# Altium footprint library swicth.PcbLib: 82 footprints (part 2 of 6)
Each footprint in its own frame and in the unit in brackets; x right, y up, seen from the top. Pads: shape width x height; smd on the part's side, far side on the other; paste and mask are expansions set on the pad; w line width, h text height; cw(c..) or ccw(c..) is an arc to the next point about the centre after c.
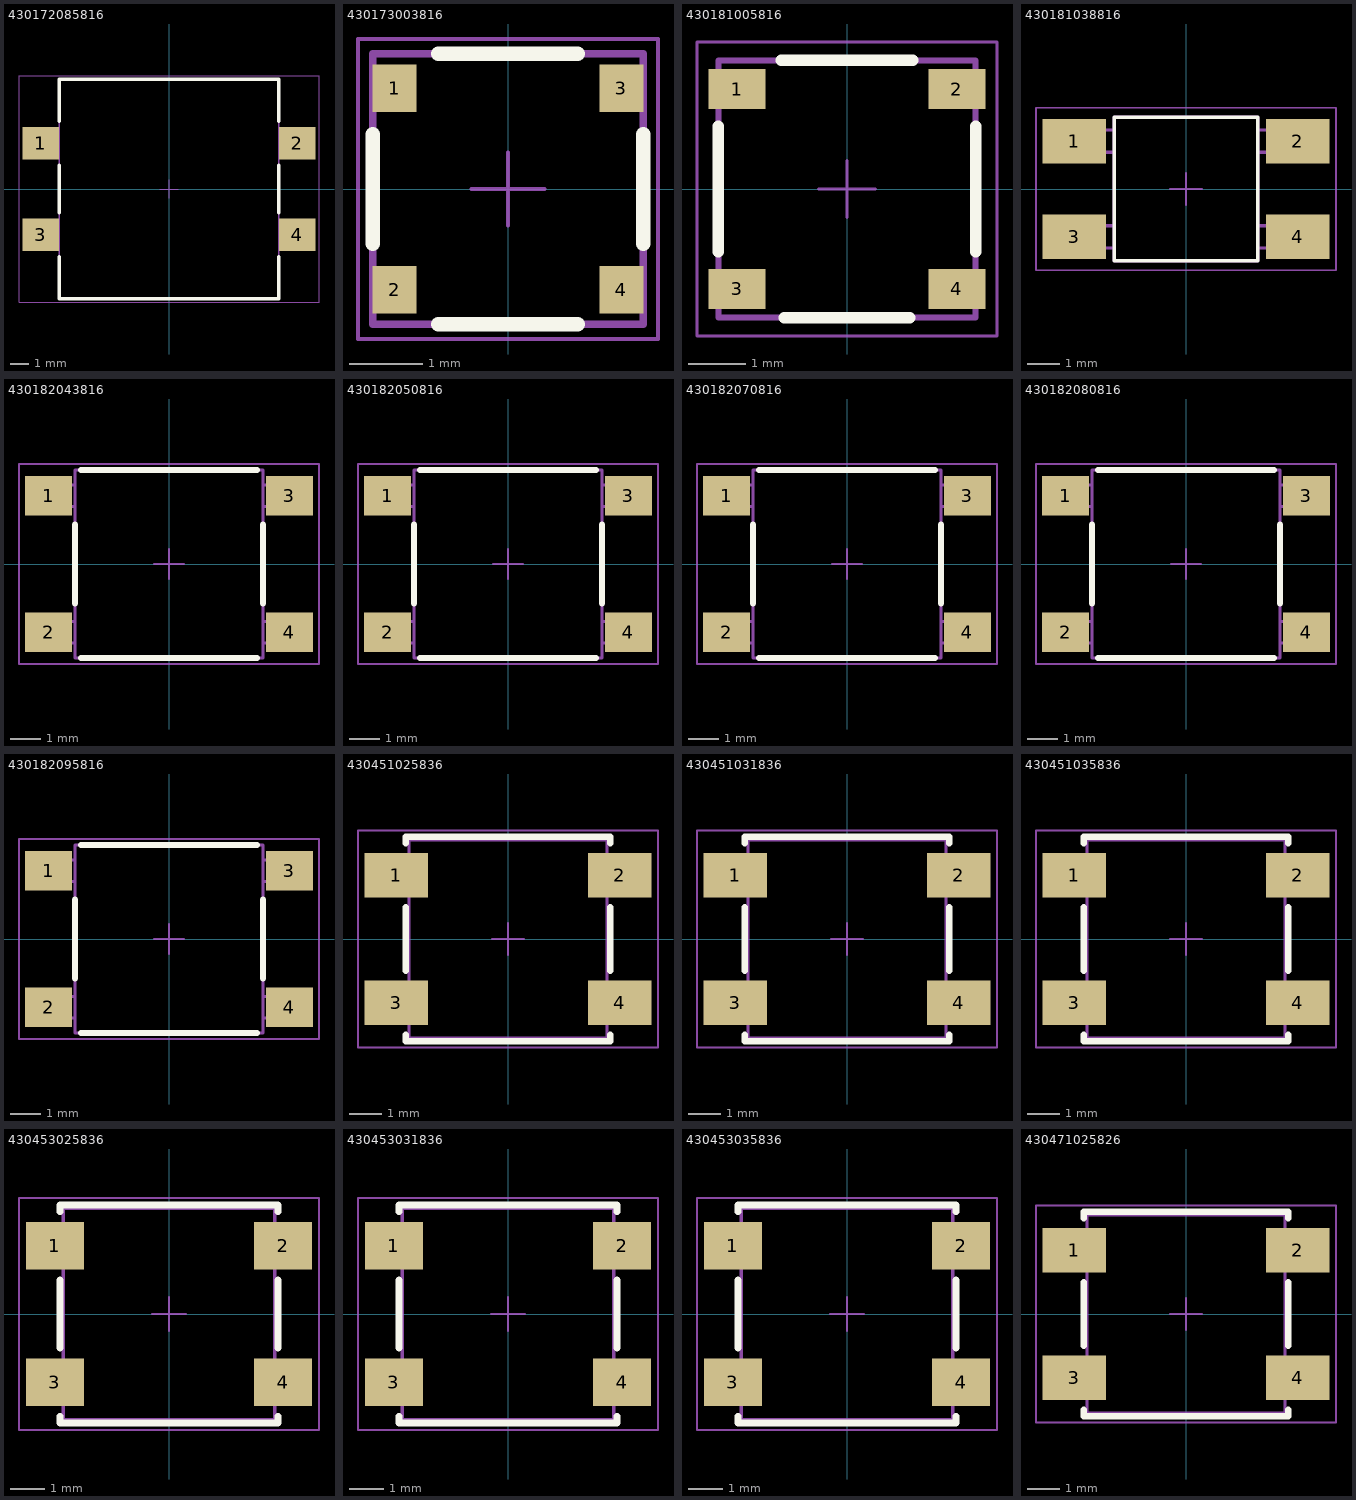
[diagram p1: the footprints below, top view; thin cyan lines are the x and y axes]

## 430172085816 [mm] "Tact Switch, SMD, body 12x12mm"
height 8.5
pads (4):
  rect 2x1.8 smd: 1(-7,2.5) 2(7,2.5) 3(-7,-2.5) 4(7,-2.5)
Top Overlay:
  lines w0.2: -6,-3.7 -6,-6 6,-6 6,-3.7 ; -6,-1.3 -6,1.3 ; -6,3.7 -6,6 6,6 6,3.7 ; 6,-1.3 6,1.3
Mechanical 13:
  lines w0.1: -6,-3 -7.65,-3 -7.65,-2 -6,-2 ; -6,2 -7.65,2 -7.65,3 -6,3 ; 6,-3 7.65,-3 7.65,-2 6,-2 ; 6,2 7.65,2 7.65,3 6,3 ; -6,-6 -6,6 6,6 6,-6 -6,-6
Mechanical 15:
  lines w0.05: -0.5,0 0.5,0 ; 0,-0.5 0,0.5 ; -8.2,-6.2 8.2,-6.2 8.2,6.2 -8.2,6.2 -8.2,-6.2
3D body "4301x20858x6.stp": height 8.5, standoff 0, extent -7.65,-6 7.65,6

## 430173003816 [mm] "Tact Switch, SMD, body 3.7x3.7mm"
height 0.35
pads (4):
  rect 0.6x0.65 smd: 1(-1.55,1.375) 2(-1.55,-1.375) 3(1.55,1.375) 4(1.55,-1.375)
Top Overlay:
  lines w0.2: -1.85,-0.75 -1.85,0.75 ; -0.95,-1.85 0.95,-1.85 ; -0.95,1.85 0.95,1.85 ; 1.85,-0.75 1.85,0.75
Mechanical 13:
  lines w0.1: -1.85,-1.85 1.85,-1.85 1.85,1.85 -1.85,1.85 -1.85,-1.85
Mechanical 15:
  lines w0.05: -0.5,0 0.5,0 ; 0,-0.5 0,0.5 ; -2.05,-2.05 2.05,-2.05 2.05,2.05 -2.05,2.05 -2.05,-2.05
3D body "4301x30038xx.stp": height 0.35, standoff 0, extent -1.85,-1.85 1.85,1.85

## 430181005816 [mm] "Tact Switch, SMD, body 4.5x4.5mm"
height 0.55
pads (4):
  rect 1x0.7 smd: 1(-1.925,1.75) 2(1.925,1.75) 3(-1.925,-1.75) 4(1.925,-1.75)
Top Overlay:
  lines w0.2: -2.25,-1.1 -2.25,1.1 ; -1.15,2.25 1.15,2.25 ; -1.1,-2.25 1.1,-2.25 ; 2.25,-1.1 2.25,1.1
Mechanical 13:
  lines w0.1: -2.25,-2.25 2.25,-2.25 2.25,2.25 -2.25,2.25 -2.25,-2.25
Mechanical 15:
  lines w0.05: -0.5,0 0.5,0 ; 0,-0.5 0,0.5 ; -2.625,-2.575 2.625,-2.575 2.625,2.575 -2.625,2.575 -2.625,-2.575
3D body "4301x10058x6.stp": height 0.55, standoff -0.01, extent -2.375,-2.25 2.375,2.25

## 430181038816 [mm] "Tact Switch, SMD, body 4.5x4.5mm"
height 3.8
pads (4):
  rect 2x1.4 smd: 1(-3.5,1.5) 2(3.5,1.5) 3(-3.5,-1.5) 4(3.5,-1.5)
Top Overlay:
  lines w0.1: -2.25,-2.25 -2.25,2.25 2.25,2.25 2.25,-2.25 -2.25,-2.25
Mechanical 13:
  lines w0.1: -2.25,-1.85 -3.75,-1.85 -3.75,-1.15 -2.25,-1.15 ; -2.25,1.15 -3.75,1.15 -3.75,1.85 -2.25,1.85 ; 2.25,-1.85 3.75,-1.85 3.75,-1.15 2.25,-1.15 ; 2.25,1.15 3.75,1.15 3.75,1.85 2.25,1.85 ; -2.25,-2.25 -2.25,2.25 2.25,2.25 2.25,-2.25 -2.25,-2.25
Mechanical 15:
  lines w0.05: -0.5,0 0.5,0 ; 0,-0.5 0,0.5 ; -4.7,-2.55 -4.7,2.55 4.7,2.55 4.7,-2.55 -4.7,-2.55
3D body "430181038816.stp": height 3.8, standoff 0, extent -3.75,-2.25 3.75,2.25

## 430182043816 [mm] "SMD Tact Switch, body 6x6mm"
height 4.3
pads (4):
  rect 1.55x1.3 smd: 1(-3.975,2.25) 2(-3.975,-2.25) 3(3.975,2.25) 4(3.975,-2.25)
Top Overlay:
  lines w0.2: -3.1,-1.3 -3.1,1.3 ; -2.9,-3.1 2.9,-3.1 ; -2.9,3.1 2.9,3.1 ; 3.1,-1.3 3.1,1.3
Mechanical 13:
  lines w0.1: -3.1,-2.6 -4.5,-2.6 -4.5,-1.9 -3.1,-1.9 ; -3.1,1.9 -4.5,1.9 -4.5,2.6 -3.1,2.6 ; 3.1,-2.6 4.5,-2.6 4.5,-1.9 3.1,-1.9 ; 3.1,1.9 4.5,1.9 4.5,2.6 3.1,2.6 ; -3.1,-3.1 -3.1,3.1 3.1,3.1 3.1,-3.1 -3.1,-3.1
Mechanical 15:
  lines w0.05: -0.5,0 0.5,0 ; 0,-0.5 0,0.5 ; -4.95,-3.3 4.95,-3.3 4.95,3.3 -4.95,3.3 -4.95,-3.3
3D body "4301x20438x6.stp": height 4.3, standoff 0, extent -4.5,-3.1 4.5,3.1

## 430182050816 [mm] "SMD Tact Switch, body 6x6mm"
height 5
pads (4):
  rect 1.55x1.3 smd: 1(-3.975,2.25) 2(-3.975,-2.25) 3(3.975,2.25) 4(3.975,-2.25)
Top Overlay:
  lines w0.2: -3.1,-1.3 -3.1,1.3 ; -2.9,-3.1 2.9,-3.1 ; -2.9,3.1 2.9,3.1 ; 3.1,-1.3 3.1,1.3
Mechanical 13:
  lines w0.1: -3.1,-2.6 -4.5,-2.6 -4.5,-1.9 -3.1,-1.9 ; -3.1,1.9 -4.5,1.9 -4.5,2.6 -3.1,2.6 ; 3.1,-2.6 4.5,-2.6 4.5,-1.9 3.1,-1.9 ; 3.1,1.9 4.5,1.9 4.5,2.6 3.1,2.6 ; -3.1,-3.1 3.1,-3.1 3.1,3.1 -3.1,3.1 -3.1,-3.1
Mechanical 15:
  lines w0.05: -0.5,0 0.5,0 ; 0,-0.5 0,0.5 ; -4.95,-3.3 -4.95,3.3 4.95,3.3 4.95,-3.3 -4.95,-3.3
3D body "4301x20508x6.stp": height 5, standoff 0, extent -4.5,-3.1 4.5,3.1

## 430182070816 [mm] "SMD Tact Switch, body 6x6mm"
height 7
pads (4):
  rect 1.55x1.3 smd: 1(-3.975,2.25) 2(-3.975,-2.25) 3(3.975,2.25) 4(3.975,-2.25)
Top Overlay:
  lines w0.2: -3.1,-1.3 -3.1,1.3 ; -2.9,-3.1 2.9,-3.1 ; -2.9,3.1 2.9,3.1 ; 3.1,-1.3 3.1,1.3
Mechanical 13:
  lines w0.1: -3.1,-2.6 -4.5,-2.6 -4.5,-1.9 -3.1,-1.9 ; -3.1,1.9 -4.5,1.9 -4.5,2.6 -3.1,2.6 ; 3.1,-2.6 4.5,-2.6 4.5,-1.9 3.1,-1.9 ; 3.1,1.9 4.5,1.9 4.5,2.6 3.1,2.6 ; -3.1,-3.1 -3.1,3.1 3.1,3.1 3.1,-3.1 -3.1,-3.1
Mechanical 15:
  lines w0.05: -0.5,0 0.5,0 ; 0,-0.5 0,0.5 ; -4.95,-3.3 4.95,-3.3 4.95,3.3 -4.95,3.3 -4.95,-3.3
3D body "4301x20708x6.stp": height 7, standoff 0, extent -4.5,-3.1 4.5,3.1

## 430182080816 [mm] "SMD Tact Switch, body 6x6mm"
height 8
pads (4):
  rect 1.55x1.3 smd: 1(-3.975,2.25) 2(-3.975,-2.25) 3(3.975,2.25) 4(3.975,-2.25)
Top Overlay:
  lines w0.2: -3.1,-1.3 -3.1,1.3 ; -2.9,-3.1 2.9,-3.1 ; -2.9,3.1 2.9,3.1 ; 3.1,-1.3 3.1,1.3
Mechanical 13:
  lines w0.1: -3.1,-2.6 -4.5,-2.6 -4.5,-1.9 -3.1,-1.9 ; -3.1,1.9 -4.5,1.9 -4.5,2.6 -3.1,2.6 ; 3.1,-2.6 4.5,-2.6 4.5,-1.9 3.1,-1.9 ; 3.1,1.9 4.5,1.9 4.5,2.6 3.1,2.6 ; -3.1,-3.1 3.1,-3.1 3.1,3.1 -3.1,3.1 -3.1,-3.1
Mechanical 15:
  lines w0.05: -0.5,0 0.5,0 ; 0,-0.5 0,0.5 ; -4.95,-3.3 4.95,-3.3 4.95,3.3 -4.95,3.3 -4.95,-3.3
3D body "4301x20808x6.stp": height 8, standoff 0, extent -4.5,-3.1 4.5,3.1

## 430182095816 [mm] "SMD Tact Switch, body 6x6mm"
height 9.5
pads (4):
  rect 1.55x1.3 smd: 1(-3.975,2.25) 2(-3.975,-2.25) 3(3.975,2.25) 4(3.975,-2.25)
Top Overlay:
  lines w0.2: -3.1,-1.3 -3.1,1.3 ; -2.9,-3.1 2.9,-3.1 ; -2.9,3.1 2.9,3.1 ; 3.1,-1.3 3.1,1.3
Mechanical 13:
  lines w0.1: -3.1,-2.6 -4.5,-2.6 -4.5,-1.9 -3.1,-1.9 ; -3.1,1.9 -4.5,1.9 -4.5,2.6 -3.1,2.6 ; 3.1,-2.6 4.5,-2.6 4.5,-1.9 3.1,-1.9 ; 3.1,1.9 4.5,1.9 4.5,2.6 3.1,2.6 ; -3.1,-3.1 -3.1,3.1 3.1,3.1 3.1,-3.1 -3.1,-3.1
Mechanical 15:
  lines w0.05: -0.5,0 0.5,0 ; 0,-0.5 0,0.5 ; -4.95,-3.3 -4.95,3.3 4.95,3.3 4.95,-3.3 -4.95,-3.3
3D body "4301x20958x6.stp": height 9.5, standoff 0, extent -4.5,-3.1 4.5,3.1

## 430451025836 [mm] "SMD Tact Switch, body 6x6mm"
height 2.5
pads (4):
  rect 2x1.4 smd: 1(-3.5,2) 2(3.5,2) 3(-3.5,-2) 4(3.5,-2)
Top Overlay:
  lines w0.2: -3.2,-3 -3.2,-3.2 3.2,-3.2 3.2,-3 ; -3.2,-1 -3.2,1 ; -3.2,3 -3.2,3.2 3.2,3.2 3.2,3 ; 3.2,-1 3.2,1
Mechanical 13:
  lines w0.1: -3.1,-2.35 -4,-2.35 -4,-1.65 -3.1,-1.65 ; -3.1,1.65 -4,1.65 -4,2.35 -3.1,2.35 ; 3.1,-2.35 4,-2.35 4,-1.65 3.1,-1.65 ; 3.1,1.65 4,1.65 4,2.35 3.1,2.35 ; -3.1,-3.1 -3.1,3.1 3.1,3.1 3.1,-3.1 -3.1,-3.1
Mechanical 15:
  lines w0.05: -0.5,0 0.5,0 ; 0,-0.5 0,0.5 ; -4.7,-3.4 -4.7,3.4 4.7,3.4 4.7,-3.4 -4.7,-3.4
3D body "4304x10258x6.stp": height 2.5, standoff 0, extent -4,-3.1 4,3.1

## 430451031836 [mm] "SMD Tact Switch, body 6x6mm"
height 3.1
pads (4):
  rect 2x1.4 smd: 1(-3.5,2) 2(3.5,2) 3(-3.5,-2) 4(3.5,-2)
Top Overlay:
  lines w0.2: -3.2,-3 -3.2,-3.2 3.2,-3.2 3.2,-3 ; -3.2,-1 -3.2,1 ; -3.2,3 -3.2,3.2 3.2,3.2 3.2,3 ; 3.2,-1 3.2,1
Mechanical 13:
  lines w0.1: -3.1,-2.35 -4,-2.35 -4,-1.65 -3.1,-1.65 ; -3.1,1.65 -4,1.65 -4,2.35 -3.1,2.35 ; 3.1,-2.35 4,-2.35 4,-1.65 3.1,-1.65 ; 3.1,1.65 4,1.65 4,2.35 3.1,2.35 ; -3.1,-3.1 -3.1,3.1 3.1,3.1 3.1,-3.1 -3.1,-3.1
Mechanical 15:
  lines w0.05: -0.5,0 0.5,0 ; 0,-0.5 0,0.5 ; -4.7,-3.4 4.7,-3.4 4.7,3.4 -4.7,3.4 -4.7,-3.4
3D body "4304x10318x6.stp": height 3.1, standoff 0, extent -4,-3.1 4,3.1

## 430451035836 [mm] "SMD Tact Switch, body 6x6mm"
height 3.5
pads (4):
  rect 2x1.4 smd: 1(-3.5,2) 2(3.5,2) 3(-3.5,-2) 4(3.5,-2)
Top Overlay:
  lines w0.2: -3.2,-3 -3.2,-3.2 3.2,-3.2 3.2,-3 ; -3.2,-1 -3.2,1 ; -3.2,3 -3.2,3.2 3.2,3.2 3.2,3 ; 3.2,-1 3.2,1
Mechanical 13:
  lines w0.1: -3.1,-2.35 -4,-2.35 -4,-1.65 -3.1,-1.65 ; -3.1,1.65 -4,1.65 -4,2.35 -3.1,2.35 ; 3.1,-2.35 4,-2.35 4,-1.65 3.1,-1.65 ; 3.1,1.65 4,1.65 4,2.35 3.1,2.35 ; -3.1,-3.1 3.1,-3.1 3.1,3.1 -3.1,3.1 -3.1,-3.1
Mechanical 15:
  lines w0.05: -0.5,0 0.5,0 ; 0,-0.5 0,0.5 ; -4.7,-3.4 4.7,-3.4 4.7,3.4 -4.7,3.4 -4.7,-3.4
3D body "4304x10358x6.stp": height 3.5, standoff 0, extent -4,-3.1 4,3.1

## 430453025836 [mm] "SMD Tact Switch, body 6x6mm"
height 2.5
pads (4):
  rect 1.7x1.4 smd: 1(-3.35,2) 2(3.35,2) 3(-3.35,-2) 4(3.35,-2)
Top Overlay:
  lines w0.2: -3.2,-3 -3.2,-3.2 3.2,-3.2 3.2,-3 ; -3.2,-1 -3.2,1 ; -3.2,3 -3.2,3.2 3.2,3.2 3.2,3 ; 3.2,-1 3.2,1
Mechanical 13:
  lines w0.1: -3.1,-3.1 3.1,-3.1 3.1,3.1 -3.1,3.1 -3.1,-3.1
Mechanical 15:
  lines w0.05: -0.5,0 0.5,0 ; 0,-0.5 0,0.5 ; -4.4,-3.4 4.4,-3.4 4.4,3.4 -4.4,3.4 -4.4,-3.4
3D body "4304x30258x6.stp": height 2.5, standoff 0, extent -3.6,-3.1 3.6,3.1

## 430453031836 [mm] "SMD Tact Switch, body 6x6mm"
height 3.1
pads (4):
  rect 1.7x1.4 smd: 1(-3.35,2) 2(3.35,2) 3(-3.35,-2) 4(3.35,-2)
Top Overlay:
  lines w0.2: -3.2,-3 -3.2,-3.2 3.2,-3.2 3.2,-3 ; -3.2,-1 -3.2,1 ; -3.2,3 -3.2,3.2 3.2,3.2 3.2,3 ; 3.2,-1 3.2,1
Mechanical 13:
  lines w0.1: -3.1,-3.1 -3.1,3.1 3.1,3.1 3.1,-3.1 -3.1,-3.1
Mechanical 15:
  lines w0.05: -0.5,0 0.5,0 ; 0,-0.5 0,0.5 ; -4.4,-3.4 4.4,-3.4 4.4,3.4 -4.4,3.4 -4.4,-3.4
3D body "4304x30318x6.stp": height 3.1, standoff 0, extent -3.6,-3.1 3.6,3.1

## 430453035836 [mm] "SMD Tact Switch, body 6x6mm"
height 3.5
pads (4):
  rect 1.7x1.4 smd: 1(-3.35,2) 2(3.35,2) 3(-3.35,-2) 4(3.35,-2)
Top Overlay:
  lines w0.2: -3.2,-3 -3.2,-3.2 3.2,-3.2 3.2,-3 ; -3.2,-1 -3.2,1 ; -3.2,3 -3.2,3.2 3.2,3.2 3.2,3 ; 3.2,-1 3.2,1
Mechanical 13:
  lines w0.1: -3.1,-3.1 -3.1,3.1 3.1,3.1 3.1,-3.1 -3.1,-3.1
Mechanical 15:
  lines w0.05: -0.5,0 0.5,0 ; 0,-0.5 0,0.5 ; -4.4,-3.4 -4.4,3.4 4.4,3.4 4.4,-3.4 -4.4,-3.4
3D body "4304x30358x6.stp": height 3.5, standoff 0, extent -3.6,-3.1 3.6,3.1

## 430471025826 [mm] "SMD Tact Switch, body 6x6mm"
height 2.5
pads (4):
  rect 2x1.4 smd: 1(-3.5,2) 2(3.5,2) 3(-3.5,-2) 4(3.5,-2)
Top Overlay:
  lines w0.2: -3.2,-3 -3.2,-3.2 3.2,-3.2 3.2,-3 ; -3.2,-1 -3.2,1 ; -3.2,3 -3.2,3.2 3.2,3.2 3.2,3 ; 3.2,-1 3.2,1
Mechanical 13:
  lines w0.1: -3.1,-2.35 -4,-2.35 -4,-1.65 -3.1,-1.65 ; -3.1,1.65 -4,1.65 -4,2.35 -3.1,2.35 ; 3.1,-2.35 4,-2.35 4,-1.65 3.1,-1.65 ; 3.1,1.65 4,1.65 4,2.35 3.1,2.35 ; -3.1,-3.1 3.1,-3.1 3.1,3.1 -3.1,3.1 -3.1,-3.1
Mechanical 15:
  lines w0.05: -0.5,0 0.5,0 ; 0,-0.5 0,0.5 ; -4.7,-3.4 4.7,-3.4 4.7,3.4 -4.7,3.4 -4.7,-3.4
3D body "4304x10258x6.stp": height 2.5, standoff 0, extent -4,-3.1 4,3.1